# EAGLE library part BSS138DWQ-7 (library ruark2)
Mosfet Array 2 N-Channel (Dual) 50V 200mA 200mW Surface Mount SOT-363
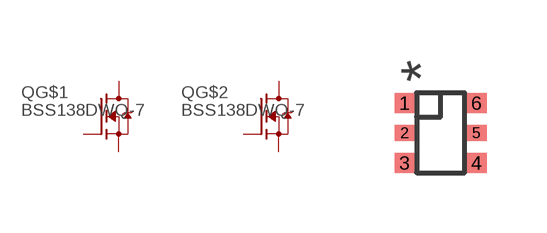
[diagram p135: symbol with the pads of SOT-363; footprint SOT-363]

Designator prefix Q; gates G$1=MOSFET G$2=MOSFET

## BSS138DWQ-7 (PARTNO: BSS138DWQ-7DICT-ND)  [SOT-363]
1  G$2:D  pas
2  G$1:G  pas
3  G$2:S  pas
4  G$2:G  pas
5  G$1:D  pas
6  G$1:S  pas

## Footprint SOT-363 (pad centres in mm)
smd 0.5 x 0.5: 1 -0.9,0.75; 3 -0.9,-0.75; 4 0.9,-0.75; 6 0.9,0.75
smd 0.5 x 0.4: 2 -0.9,0; 5 0.9,0